# EAGLE library part MP2611 (library MP2611)
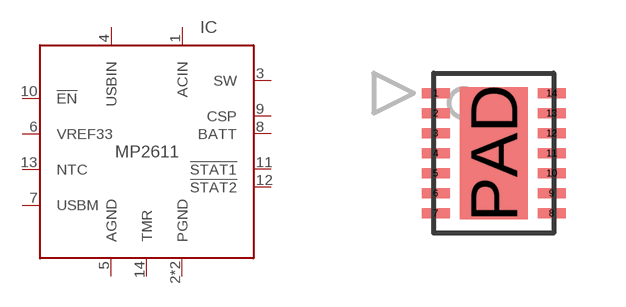
[diagram p0: symbol with the pads of PDFN14-3X4; footprint PDFN14-3X4]

Designator prefix IC

## MP2611GL (MF: MICROPOWER; MPN: MP2611GL)  [PDFN14-3X4]
1  ACIN  in
2  PGND  pwr
3  SW  out
4  USBIN  in
5  AGND  pwr
6  VREF33  out
7  USBM  in
8  BATT  in
9  CSP  in
10  !EN  in
11  !STAT1  oc
12  !STAT2  oc
13  NTC  in
14  TMR
PAD  PGND  pwr

## Footprint PDFN14-3X4 (pad centres in mm)
smd 0.7 x 0.25: 1 -1.45,1.5; 2 -1.45,1; 3 -1.45,0.5; 4 -1.45,0; 5 -1.45,-0.5; 6 -1.45,-1; 7 -1.45,-1.5; 8 1.45,-1.5; 9 1.45,-1; 10 1.45,-0.5; 11 1.45,0; 12 1.45,0.5; 13 1.45,1; 14 1.45,1.5
smd 1.7 x 3.3: PAD 0,0